# EAGLE library part FT230X (library CougsInSpace-IC-Comms)
FT230x USB/UART Bridge FT230x <https://github.com/CougsInSpace/Resources/blob/master/SupplierDocuments/FTDI/FT230X_USB-UARTBridge.pdf>
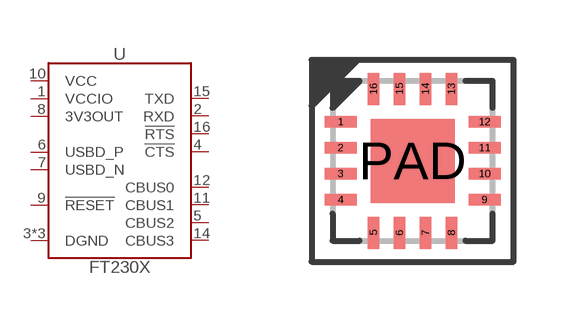
[diagram p1: symbol with the pads of QFN-16-4040; footprint QFN-16-4040]

Designator prefix U

## FT230X-QFN16 (SKU: 09-0002; VALUE: FT230XQ)  [QFN-16-4040]
1  VCCIO  pwr
2  RXD  in
3  DGND  pwr
4  !CTS  in
5  CBUS2
6  USBD_P
7  USBD_N
8  3V3OUT  out
9  !RESET  in
10  VCC  pwr
11  CBUS1
12  CBUS0
13  DGND  pwr
14  CBUS3
15  TXD  out
16  !RTS  out
PAD  DGND  pwr

## Footprint QFN-16-4040 (pad centres in mm)
Quad Flat No-Leads (QFN) - 16 pins - 4.0 x 4.0 mm
smd 0.8 x 0.28: 1 -1.8,0.975; 2 -1.8,0.325; 3 -1.8,-0.325; 4 -1.8,-0.975; 9 1.8,-0.975; 10 1.8,-0.325; 11 1.8,0.325; 12 1.8,0.975
smd 0.28 x 0.8: 5 -0.975,-1.8; 6 -0.325,-1.8; 7 0.325,-1.8; 8 0.975,-1.8; 13 0.975,1.8; 14 0.325,1.8; 15 -0.325,1.8; 16 -0.975,1.8
smd 2.1 x 2.1: PAD 0,0